# Altium footprint library 581-M25-213L461.PcbLib: 1 footprints
Each footprint in its own frame and in the unit in brackets; x right, y up, seen from the top. Pads: shape width x height; smd on the part's side, far side on the other; paste and mask are expansions set on the pad; w line width, h text height; cw(c..) or ccw(c..) is an arc to the next point about the centre after c.
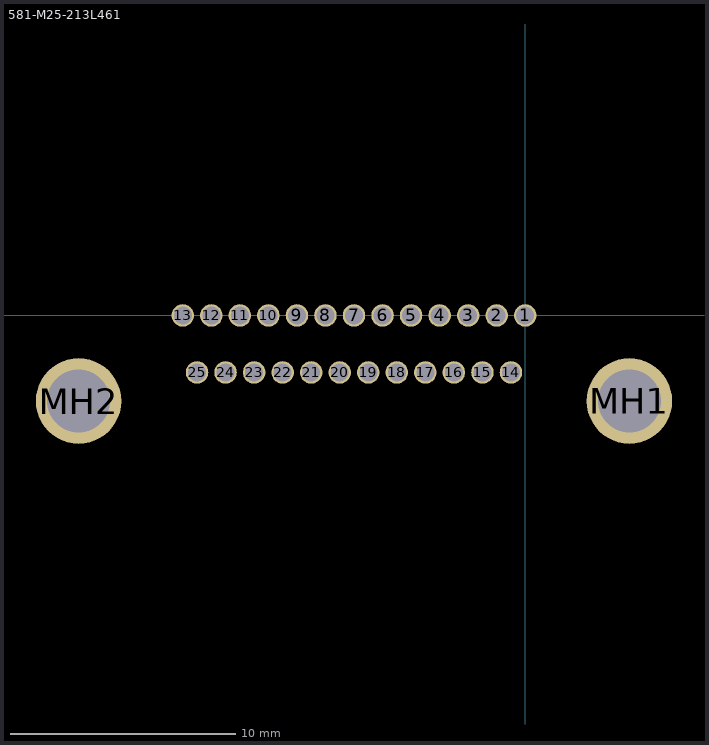
[diagram p0: the footprint, top view; thin cyan lines are the x and y axes]

## 581-M25-213L461 [mm] "Micro-D connector, female"
pads (27):
  round 1 hole 0.8: 1(0,0) 2(-1.27,0) 3(-2.54,0) 4(-3.81,0) 5(-5.08,0) 6(-6.35,0) 7(-7.62,0) 8(-8.89,0) 9(-10.16,0) 10(-11.43,0) 11(-12.7,0) 12(-13.97,0) 13(-15.24,0) 14(-0.635,-2.54) 15(-1.905,-2.54) 16(-3.175,-2.54) 17(-4.445,-2.54) 18(-5.715,-2.54) 19(-6.985,-2.54) 20(-8.255,-2.54) 21(-9.525,-2.54) 22(-10.795,-2.54) 23(-12.065,-2.54) 24(-13.335,-2.54) 25(-14.605,-2.54)
  round 3.81 hole 2.8: MH1(4.635,-3.81) MH2(-19.875,-3.81)
3D body "581-M25-213L461.STEP": height 7.8, standoff -2.8, extent -22.67,-14.605 7.43,0.945